# Altium footprint library Inductor_SMD.PcbLib: 259 footprints (part 2 of 17)
Each footprint in its own frame and in the unit in brackets; x right, y up, seen from the top. Pads: shape width x height; smd on the part's side, far side on the other; paste and mask are expansions set on the pad; w line width, h text height; cw(c..) or ccw(c..) is an arc to the next point about the centre after c.
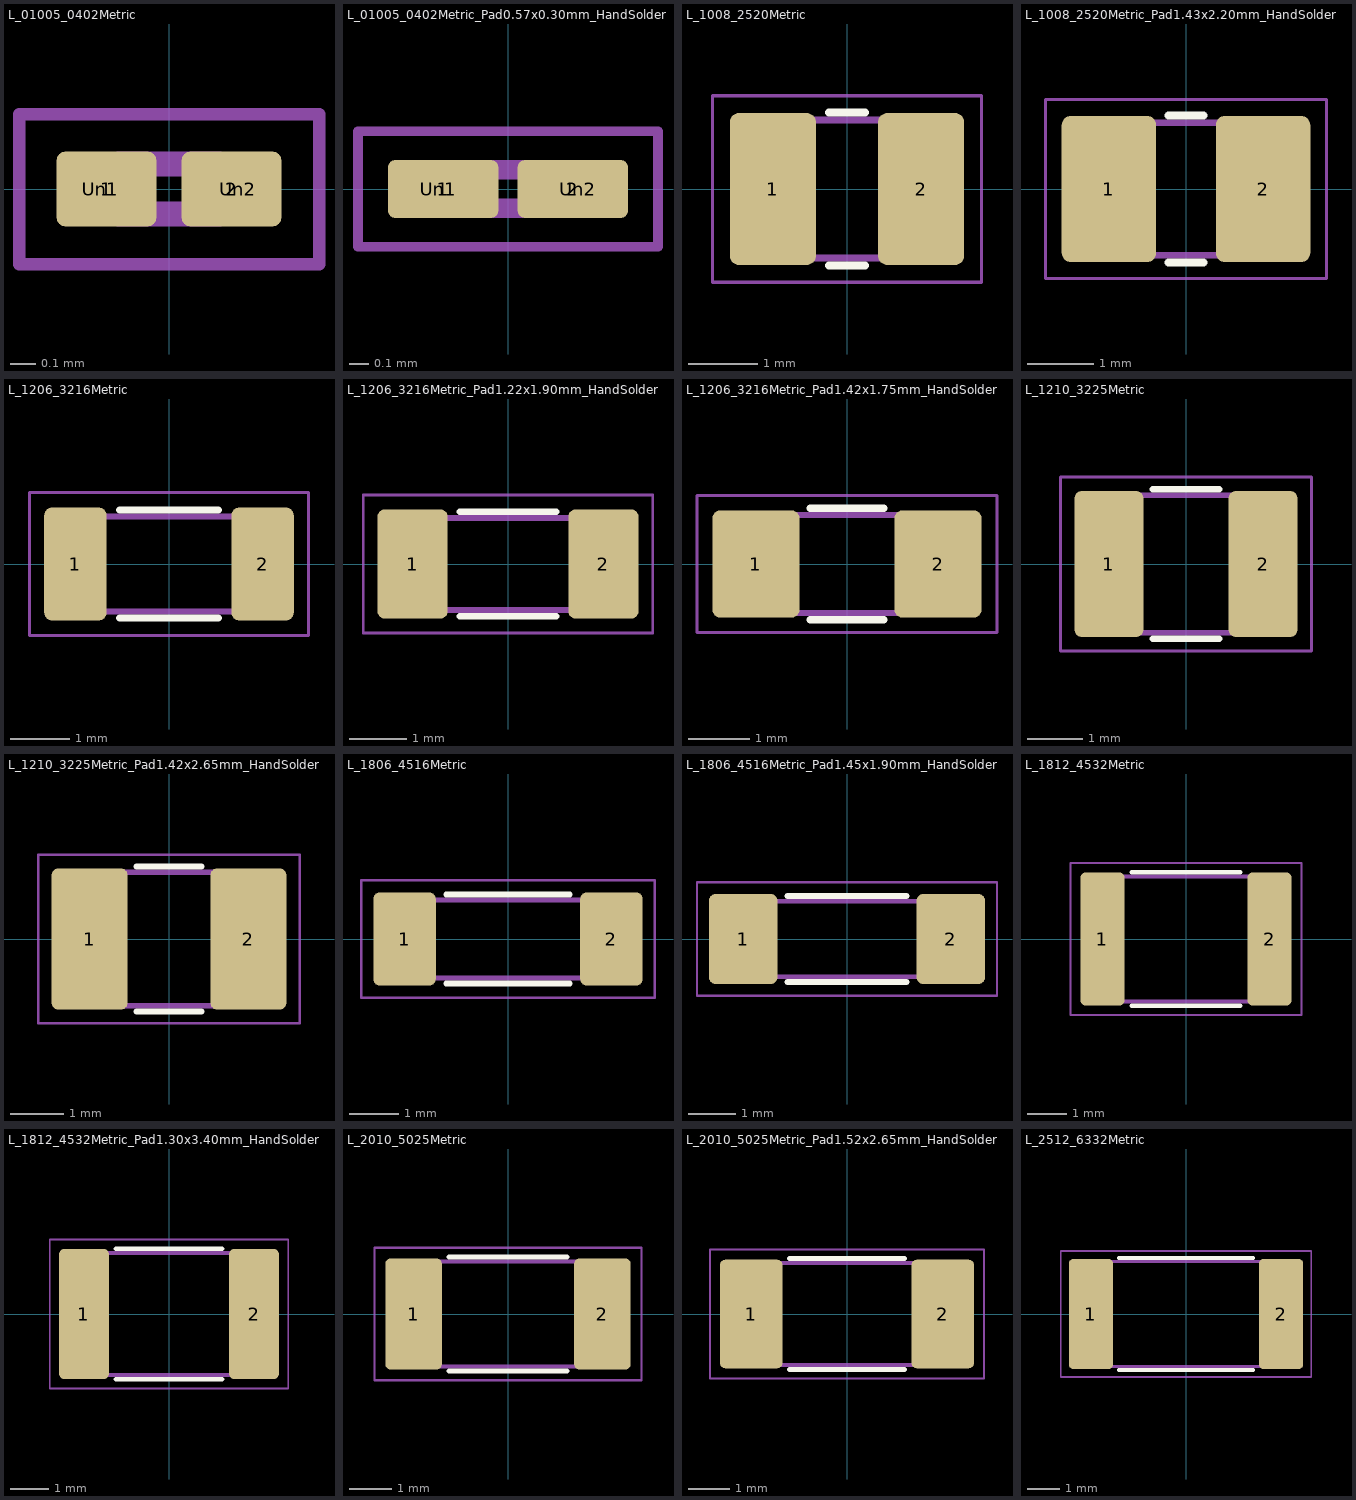
[diagram p1: the footprints below, top view; thin cyan lines are the x and y axes]

## L_01005_0402Metric [mm]
pads (4):
  rrect25% 0.4x0.3 smd: 1(-0.25,0) 2(0.25,0)
  rrect25% 0.27x0.27 on Top Paste: Un1(-0.275,0) Un2(0.275,0)
F.CrtYd:
  lines w0.05: -0.6,-0.3 -0.6,0.3 0.6,0.3 0.6,-0.3 -0.6,-0.3
F.Fab:
  lines w0.1: -0.2,-0.1 -0.2,0.1 0.2,0.1 0.2,-0.1 -0.2,-0.1
  text "'.Designator'" at -1.014,0.407 h0.25
3D body "L_01005_0402Metric.step": height 0.2, standoff 0, extent -0.2,-0.1 0.2,0.1

## L_01005_0402Metric_Pad0.57x0.30mm_HandSolder [mm]
pads (4):
  rrect25% 0.575x0.3 smd: 1(-0.337,0) 2(0.337,0)
  rrect25% 0.41x0.27 on Top Paste: Un1(-0.363,0) Un2(0.363,0)
F.CrtYd:
  lines w0.05: -0.78,-0.3 0.78,-0.3 0.78,0.3 -0.78,0.3 -0.78,-0.3
F.Fab:
  lines w0.1: -0.2,-0.1 0.2,-0.1 0.2,0.1 -0.2,0.1 -0.2,-0.1
  text "'.Designator'" at -1.014,0.407 h0.25
3D body "L_01005_0402Metric.step": height 0.2, standoff 0, extent -0.2,-0.1 0.2,0.1

## L_1008_2520Metric [mm]
pads (2):
  rrect20% 1.25x2.2 smd: 1(-1.075,0) 2(1.075,0)
F.SilkS:
  lines w0.12: -0.261,-1.11 0.261,-1.11 ; -0.261,1.11 0.261,1.11
F.CrtYd:
  lines w0.05: -1.95,-1.35 1.95,-1.35 1.95,1.35 -1.95,1.35 -1.95,-1.35
F.Fab:
  lines w0.1: -1.25,-1 1.25,-1 1.25,1 -1.25,1 -1.25,-1
  text "'.Designator'" at -2.506,-0.518 h0.62
3D body "L_1008_2520Metric.step": height 1.2, standoff 0, extent -1.25,-1 1.25,1

## L_1008_2520Metric_Pad1.43x2.20mm_HandSolder [mm]
pads (2):
  rrect18% 1.425x2.2 smd: 1(-1.162,0) 2(1.162,0)
F.SilkS:
  lines w0.12: -0.261,-1.11 0.261,-1.11 ; -0.261,1.11 0.261,1.11
F.CrtYd:
  lines w0.05: -2.12,-1.35 2.12,-1.35 2.12,1.35 -2.12,1.35 -2.12,-1.35
F.Fab:
  lines w0.1: -1.25,-1 -1.25,1 1.25,1 1.25,-1 -1.25,-1
  text "'.Designator'" at -2.506,-0.518 h0.62
3D body "L_1008_2520Metric.step": height 1.2, standoff 0, extent -1.25,-1 1.25,1

## L_1206_3216Metric [mm]
pads (2):
  rrect24% 1.05x1.9 smd: 1(-1.575,0) 2(1.575,0)
F.SilkS:
  lines w0.12: -0.835,-0.91 0.835,-0.91 ; -0.835,0.91 0.835,0.91
F.CrtYd:
  lines w0.05: -2.35,-1.2 2.35,-1.2 2.35,1.2 -2.35,1.2 -2.35,-1.2
F.Fab:
  lines w0.1: -1.6,-0.8 1.6,-0.8 1.6,0.8 -1.6,0.8 -1.6,-0.8
  text "'.Designator'" at -3.237,-0.672 h0.8
3D body "L_1206_3216Metric.step": height 1.6, standoff 0, extent -1.6,-0.8 1.6,0.8

## L_1206_3216Metric_Pad1.22x1.90mm_HandSolder [mm]
pads (2):
  rrect20% 1.225x1.9 smd: 1(-1.663,0) 2(1.663,0)
F.SilkS:
  lines w0.12: -0.835,-0.91 0.835,-0.91 ; -0.835,0.91 0.835,0.91
F.CrtYd:
  lines w0.05: -2.52,-1.2 -2.52,1.2 2.52,1.2 2.52,-1.2 -2.52,-1.2
F.Fab:
  lines w0.1: -1.6,-0.8 1.6,-0.8 1.6,0.8 -1.6,0.8 -1.6,-0.8
  text "'.Designator'" at -3.237,-0.672 h0.8
3D body "L_1206_3216Metric.step": height 1.6, standoff 0, extent -1.6,-0.8 1.6,0.8

## L_1206_3216Metric_Pad1.42x1.75mm_HandSolder [mm]
pads (2):
  rrect18% 1.425x1.75 smd: 1(-1.488,0) 2(1.488,0)
F.SilkS:
  lines w0.12: -0.602,-0.91 0.602,-0.91 ; -0.602,0.91 0.602,0.91
F.CrtYd:
  lines w0.05: -2.45,-1.12 -2.45,1.12 2.45,1.12 2.45,-1.12 -2.45,-1.12
F.Fab:
  lines w0.1: -1.6,-0.8 1.6,-0.8 1.6,0.8 -1.6,0.8 -1.6,-0.8
  text "'.Designator'" at -3.237,-0.672 h0.8
3D body "L_1206_3216Metric.step": height 1.6, standoff 0, extent -1.6,-0.8 1.6,0.8

## L_1210_3225Metric [mm]
pads (2):
  rrect20% 1.25x2.65 smd: 1(-1.4,0) 2(1.4,0)
F.SilkS:
  lines w0.12: -0.602,-1.36 0.602,-1.36 ; -0.602,1.36 0.602,1.36
F.CrtYd:
  lines w0.05: -2.28,-1.58 2.28,-1.58 2.28,1.58 -2.28,1.58 -2.28,-1.58
F.Fab:
  lines w0.1: -1.6,-1.25 1.6,-1.25 1.6,1.25 -1.6,1.25 -1.6,-1.25
  text "'.Designator'" at -3.237,-0.672 h0.8
3D body "L_1210_3225Metric.step": height 2.5, standoff 0, extent -1.6,-1.25 1.6,1.25

## L_1210_3225Metric_Pad1.42x2.65mm_HandSolder [mm]
pads (2):
  rrect18% 1.425x2.65 smd: 1(-1.488,0) 2(1.488,0)
F.SilkS:
  lines w0.12: -0.602,-1.36 0.602,-1.36 ; -0.602,1.36 0.602,1.36
F.CrtYd:
  lines w0.05: -2.45,-1.58 -2.45,1.58 2.45,1.58 2.45,-1.58 -2.45,-1.58
F.Fab:
  lines w0.1: -1.6,-1.25 1.6,-1.25 1.6,1.25 -1.6,1.25 -1.6,-1.25
  text "'.Designator'" at -3.237,-0.672 h0.8
3D body "L_1210_3225Metric.step": height 2.5, standoff 0, extent -1.6,-1.25 1.6,1.25

## L_1806_4516Metric [mm]
pads (2):
  rrect20% 1.275x1.9 smd: 1(-2.113,0) 2(2.113,0)
F.SilkS:
  lines w0.12: -1.26,-0.91 1.26,-0.91 ; -1.26,0.91 1.26,0.91
F.CrtYd:
  lines w0.05: -3,-1.2 -3,1.2 3,1.2 3,-1.2 -3,-1.2
F.Fab:
  lines w0.1: -2.25,-0.8 2.25,-0.8 2.25,0.8 -2.25,0.8 -2.25,-0.8
  text "'.Designator'" at -4.047,-0.84 h1
3D body "L_1806_4516Metric.step": height 1.6, standoff 0, extent -2.25,-0.8 2.25,0.8

## L_1806_4516Metric_Pad1.45x1.90mm_HandSolder [mm]
pads (2):
  rrect17% 1.45x1.9 smd: 1(-2.2,0) 2(2.2,0)
F.SilkS:
  lines w0.12: -1.26,-0.91 1.26,-0.91 ; -1.26,0.91 1.26,0.91
F.CrtYd:
  lines w0.05: -3.18,-1.2 -3.18,1.2 3.18,1.2 3.18,-1.2 -3.18,-1.2
F.Fab:
  lines w0.1: -2.25,-0.8 -2.25,0.8 2.25,0.8 2.25,-0.8 -2.25,-0.8
  text "'.Designator'" at -4.047,-0.84 h1
3D body "L_1806_4516Metric.step": height 1.6, standoff 0, extent -2.25,-0.8 2.25,0.8

## L_1812_4532Metric [mm]
pads (2):
  rrect22% 1.125x3.4 smd: 1(-2.137,0) 2(2.137,0)
F.SilkS:
  lines w0.12: -1.386,-1.71 1.386,-1.71 ; -1.386,1.71 1.386,1.71
F.CrtYd:
  lines w0.05: -2.95,-1.95 2.95,-1.95 2.95,1.95 -2.95,1.95 -2.95,-1.95
F.Fab:
  lines w0.1: -2.25,-1.6 2.25,-1.6 2.25,1.6 -2.25,1.6 -2.25,-1.6
  text "'.Designator'" at -4.047,-0.84 h1
3D body "L_1812_4532Metric.step": height 2.5, standoff 0, extent -2.25,-1.6 2.25,1.6

## L_1812_4532Metric_Pad1.30x3.40mm_HandSolder [mm]
pads (2):
  rrect19% 1.3x3.4 smd: 1(-2.225,0) 2(2.225,0)
F.SilkS:
  lines w0.12: -1.386,-1.71 1.386,-1.71 ; -1.386,1.71 1.386,1.71
F.CrtYd:
  lines w0.05: -3.12,-1.95 -3.12,1.95 3.12,1.95 3.12,-1.95 -3.12,-1.95
F.Fab:
  lines w0.1: -2.25,-1.6 -2.25,1.6 2.25,1.6 2.25,-1.6 -2.25,-1.6
  text "'.Designator'" at -4.047,-0.84 h1
3D body "L_1812_4532Metric.step": height 2.5, standoff 0, extent -2.25,-1.6 2.25,1.6

## L_2010_5025Metric [mm]
pads (2):
  rrect19% 1.35x2.65 smd: 1(-2.25,0) 2(2.25,0)
F.SilkS:
  lines w0.12: -1.402,-1.36 1.402,-1.36 ; -1.402,1.36 1.402,1.36
F.CrtYd:
  lines w0.05: -3.18,-1.58 -3.18,1.58 3.18,1.58 3.18,-1.58 -3.18,-1.58
F.Fab:
  lines w0.1: -2.5,-1.25 2.5,-1.25 2.5,1.25 -2.5,1.25 -2.5,-1.25
  text "'.Designator'" at -4.047,-0.84 h1
3D body "L_2010_5025Metric.step": height 1.8, standoff 0, extent -2.5,-1.25 2.5,1.25

## L_2010_5025Metric_Pad1.52x2.65mm_HandSolder [mm]
pads (2):
  rrect16% 1.525x2.65 smd: 1(-2.338,0) 2(2.338,0)
F.SilkS:
  lines w0.12: -1.402,-1.36 1.402,-1.36 ; -1.402,1.36 1.402,1.36
F.CrtYd:
  lines w0.05: -3.35,-1.58 -3.35,1.58 3.35,1.58 3.35,-1.58 -3.35,-1.58
F.Fab:
  lines w0.1: -2.5,-1.25 -2.5,1.25 2.5,1.25 2.5,-1.25 -2.5,-1.25
  text "'.Designator'" at -4.047,-0.84 h1
3D body "L_2010_5025Metric.step": height 1.8, standoff 0, extent -2.5,-1.25 2.5,1.25

## L_2512_6332Metric [mm]
pads (2):
  rrect19% 1.35x3.35 smd: 1(-2.9,0) 2(2.9,0)
F.SilkS:
  lines w0.12: -2.052,-1.71 2.052,-1.71 ; -2.052,1.71 2.052,1.71
F.CrtYd:
  lines w0.05: -3.82,-1.92 3.82,-1.92 3.82,1.92 -3.82,1.92 -3.82,-1.92
F.Fab:
  lines w0.1: -3.15,-1.6 -3.15,1.6 3.15,1.6 3.15,-1.6 -3.15,-1.6
  text "'.Designator'" at -4.047,-0.84 h1
3D body "L_2512_6332Metric.step": height 3.2, standoff 0, extent -3.15,-1.6 3.15,1.6